# Altium footprint library mirco32s3.PcbLib: 1 footprints
Each footprint in its own frame and in the unit in brackets; x right, y up, seen from the top. Pads: shape width x height; smd on the part's side, far side on the other; paste and mask are expansions set on the pad; w line width, h text height; cw(c..) or ccw(c..) is an arc to the next point about the centre after c.
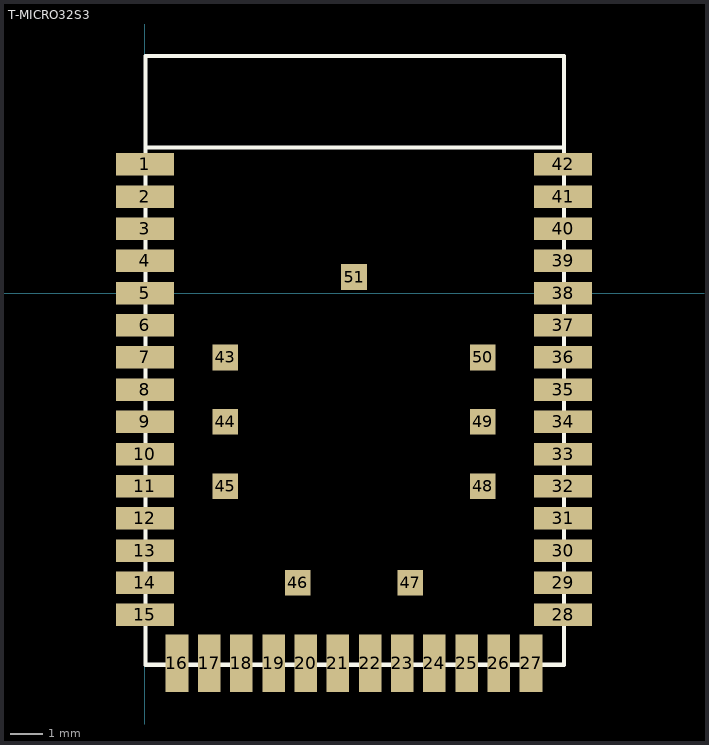
[diagram p0: the footprint, top view; thin cyan lines are the x and y axes]

## T-MICRO32S3 [mm]
pads (51):
  rect 1.8x0.7 smd: 1(0,4) 2(0,3) 3(0,2) 4(0,1) 5(0,0) 6(0,-1) 7(0,-2) 8(0,-3) 9(0,-4) 10(0,-5) 11(0,-6) 12(0,-7) 13(0,-8) 14(0,-9) 15(0,-10) 28(13,-10) 29(13,-9) 30(13,-8) 31(13,-7) 32(13,-6) 33(13,-5) 34(13,-4) 35(13,-3) 36(13,-2) 37(13,-1) 38(13,0) 39(13,1) 40(13,2) 41(13,3) 42(13,4)
  rect 0.7x1.8 smd: 16(1,-11.5) 17(2,-11.5) 18(3,-11.5) 19(4,-11.5) 20(5,-11.5) 21(6,-11.5) 22(7,-11.5) 23(8,-11.5) 24(9,-11.5) 25(10,-11.5) 26(11,-11.5) 27(12,-11.5)
  rect 0.8x0.8 smd: 43(2.5,-2) 44(2.5,-4) 45(2.5,-6) 46(4.75,-9) 47(8.25,-9) 48(10.5,-6) 49(10.5,-4) 50(10.5,-2) 51(6.5,0.5)
Top Overlay:
  lines w0.127: 0.025,-11.549 0.025,7.374 13.029,7.374 13.029,-11.549 0.025,-11.549 ; 0.025,-11.543 0.025,4.529 13.025,4.529 13.025,-11.543 0.025,-11.543